# EAGLE library part T6WR6XBG (library ecad)
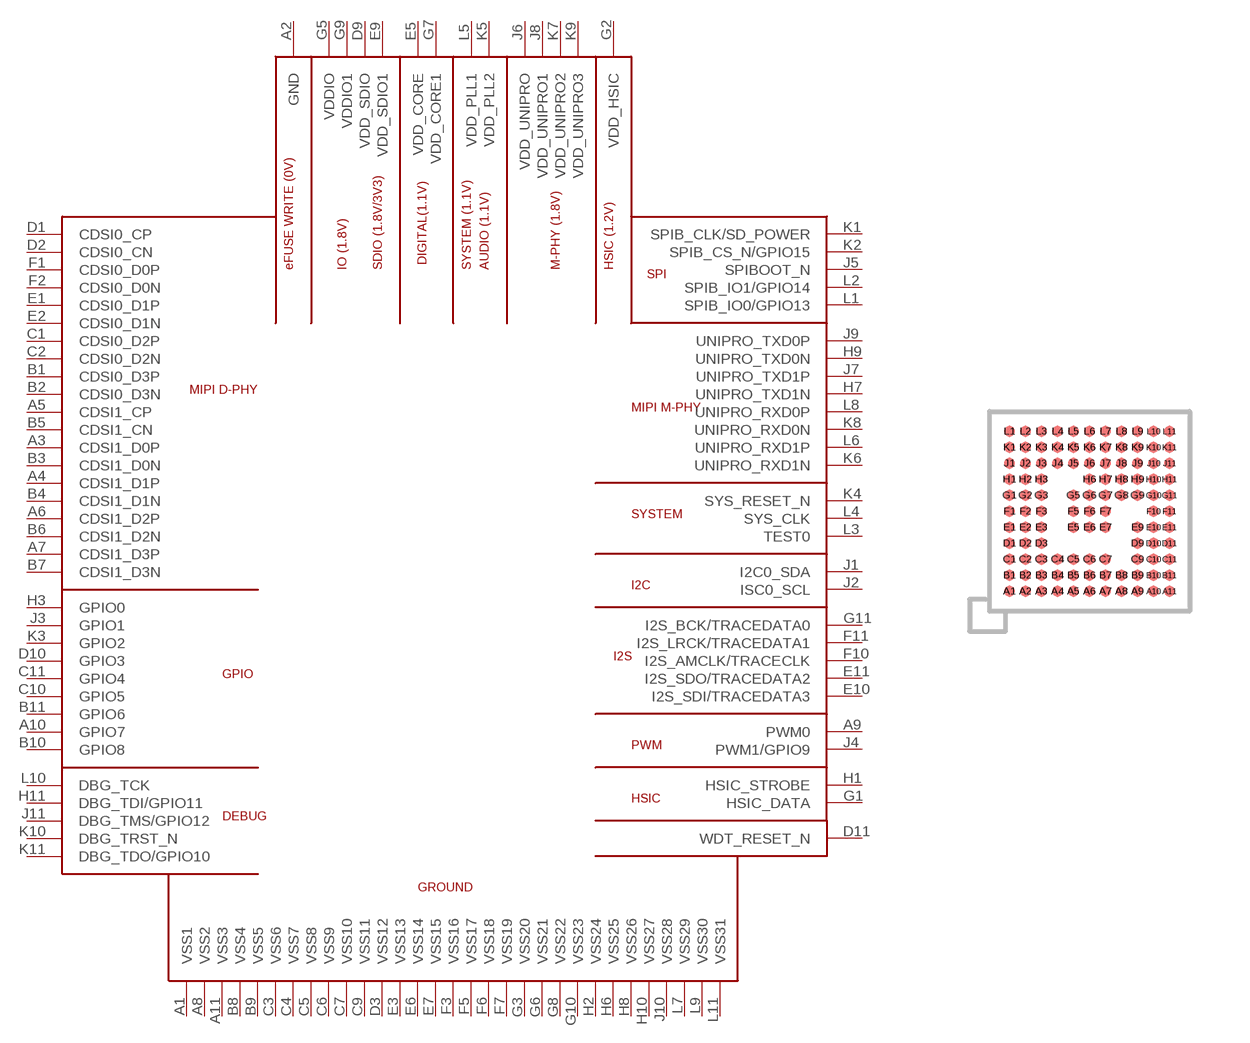
[diagram p0: symbol with the pads of BGA107; footprint BGA107]

Designator prefix -

## T6WR6XBG  [BGA107]
A1  VSS1  pas
A2  GND  pas
A3  CDSI1_D0P  pas
A4  CDSI1_D1P  pas
A5  CDSI1_CP  pas
A6  CDSI1_D2P  pas
A7  CDSI1_D3P  pas
A8  VSS2  pas
A9  PWM0  pas
A10  GPIO7  pas
A11  VSS3  pas
B1  CDSI0_D3P  pas
B2  CDSI0_D3N  pas
B3  CDSI1_D0N  pas
B4  CDSI1_D1N  pas
B5  CDSI1_CN  pas
B6  CDSI1_D2N  pas
B7  CDSI1_D3N  pas
B8  VSS4  pas
B9  VSS5  pas
B10  GPIO8  pas
B11  GPIO6  pas
C1  CDSI0_D2P  pas
C2  CDSI0_D2N  pas
C3  VSS6  pas
C4  VSS7  pas
C5  VSS8  pas
C6  VSS9  pas
C7  VSS10  pas
C9  VSS11  pas
C10  GPIO5  pas
C11  GPIO4  pas
D1  CDSI0_CP  pas
D2  CDSI0_CN  pas
D3  VSS12  pas
D9  VDD_SDIO  pas
D10  GPIO3  pas
D11  WDT_RESET_N  pas
E1  CDSI0_D1P  pas
E2  CDSI0_D1N  pas
E3  VSS13  pas
E5  VDD_CORE  pas
E6  VSS14  pas
E7  VSS15  pas
E9  VDD_SDIO1  pas
E10  I2S_SDI/TRACEDATA3  pas
E11  I2S_SDO/TRACEDATA2  pas
F1  CDSI0_D0P  pas
F2  CDSI0_D0N  pas
F3  VSS16  pas
F5  VSS17  pas
F6  VSS18  pas
F7  VSS19  pas
F10  I2S_AMCLK/TRACECLK  pas
F11  I2S_LRCK/TRACEDATA1  pas
G1  HSIC_DATA  pas
G2  VDD_HSIC  pas
G3  VSS20  pas
G5  VDDIO  pas
G6  VSS21  pas
G7  VDD_CORE1  pas
G8  VSS22  pas
G9  VDDIO1  pas
G10  VSS23  pas
G11  I2S_BCK/TRACEDATA0  pas
H1  HSIC_STROBE  pas
H2  VSS24  pas
H3  GPIO0  pas
H6  VSS25  pas
H7  UNIPRO_TXD1N  pas
H8  VSS26  pas
H9  UNIPRO_TXD0N  pas
H10  VSS27  pas
H11  DBG_TDI/GPIO11  pas
J1  I2C0_SDA  pas
J2  ISC0_SCL  pas
J3  GPIO1  pas
J4  PWM1/GPIO9  pas
J5  SPIBOOT_N  pas
J6  VDD_UNIPRO  pas
J7  UNIPRO_TXD1P  pas
J8  VDD_UNIPRO1  pas
J9  UNIPRO_TXD0P  pas
J10  VSS28  pas
J11  DBG_TMS/GPIO12  pas
K1  SPIB_CLK/SD_POWER  pas
K2  SPIB_CS_N/GPIO15  pas
K3  GPIO2  pas
K4  SYS_RESET_N  pas
K5  VDD_PLL2  pas
K6  UNIPRO_RXD1N  pas
K7  VDD_UNIPRO2  pas
K8  UNIPRO_RXD0N  pas
K9  VDD_UNIPRO3  pas
K10  DBG_TRST_N  pas
K11  DBG_TDO/GPIO10  pas
L1  SPIB_IO0/GPIO13  pas
L2  SPIB_IO1/GPIO14  pas
L3  TEST0  pas
L4  SYS_CLK  pas
L5  VDD_PLL1  pas
L6  UNIPRO_RXD1P  pas
L7  VSS29  pas
L8  UNIPRO_RXD0P  pas
L9  VSS30  pas
L10  DBG_TCK  pas
L11  VSS31  pas

## Footprint BGA107 (pad centres in mm)
smd 0.28 x 0.28: A1 -2,-2; A2 -1.6,-2; A3 -1.2,-2; A4 -0.8,-2; A5 -0.4,-2; A6 0,-2; A7 0.4,-2; A8 0.8,-2; A9 1.2,-2; A10 1.6,-2; A11 2,-2; B1 -2,-1.6; B2 -1.6,-1.6; B3 -1.2,-1.6; B4 -0.8,-1.6; B5 -0.4,-1.6; B6 0,-1.6; B7 0.4,-1.6; B8 0.8,-1.6; B9 1.2,-1.6; B10 1.6,-1.6; B11 2,-1.6; C1 -2,-1.2; C2 -1.6,-1.2; C3 -1.2,-1.2; C4 -0.8,-1.2; C5 -0.4,-1.2; C6 0,-1.2; C7 0.4,-1.2; C9 1.2,-1.2; C10 1.6,-1.2; C11 2,-1.2; D1 -2,-0.8; D2 -1.6,-0.8; D3 -1.2,-0.8; D9 1.2,-0.8; D10 1.6,-0.8; D11 2,-0.8; E1 -2,-0.4; E2 -1.6,-0.4; E3 -1.2,-0.4; E5 -0.4,-0.4; E6 0,-0.4; E7 0.4,-0.4; E9 1.2,-0.4; E10 1.6,-0.4; E11 2,-0.4; F1 -2,0; F2 -1.6,0; F3 -1.2,0; F5 -0.4,0; F6 0,0; F7 0.4,0; F10 1.6,0; F11 2,0; G1 -2,0.4; G2 -1.6,0.4; G3 -1.2,0.4; G5 -0.4,0.4; G6 0,0.4; G7 0.4,0.4; G8 0.8,0.4; G9 1.2,0.4; G10 1.6,0.4; G11 2,0.4; H1 -2,0.8; H2 -1.6,0.8; H3 -1.2,0.8; H6 0,0.8; H7 0.4,0.8; H8 0.8,0.8; H9 1.2,0.8; H10 1.6,0.8; H11 2,0.8; J1 -2,1.2; J2 -1.6,1.2; J3 -1.2,1.2; J4 -0.8,1.2; J5 -0.4,1.2; J6 0,1.2; J7 0.4,1.2; J8 0.8,1.2; J9 1.2,1.2; J10 1.6,1.2; J11 2,1.2; K1 -2,1.6; K2 -1.6,1.6; K3 -1.2,1.6; K4 -0.8,1.6; K5 -0.4,1.6; K6 0,1.6; K7 0.4,1.6; K8 0.8,1.6; K9 1.2,1.6; K10 1.6,1.6; K11 2,1.6; L1 -2,2; L2 -1.6,2; L3 -1.2,2; L4 -0.8,2; L5 -0.4,2; L6 0,2; L7 0.4,2; L8 0.8,2; L9 1.2,2; L10 1.6,2; L11 2,2